# Altium schematic symbol library IND,22uH,2.3A,Wirewound,SMD.Schlib: 1 symbol
Pins are listed as number, name and electrical type; pins without a type are passive.

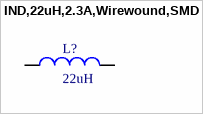
[diagram p0: symbol IND,22uH,2.3A,Wirewound,SMD]

## IND,22uH,2.3A,Wirewound,SMD
designator L?, comment 22uH
Shielded Wirewound Inductor 108mOhm Nonstandard
pins: 1, 2